# EAGLE library part RADIOMETRIX-HX1 (library OpenSpace)
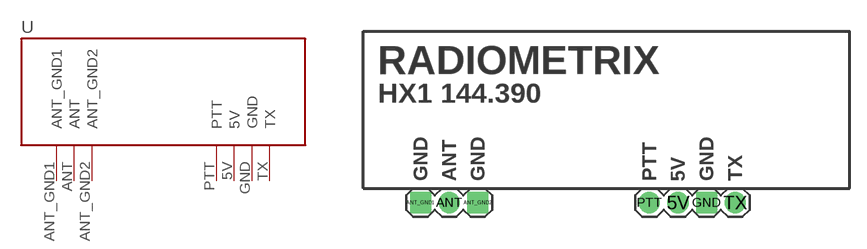
[diagram p4: symbol with the pads of RADIOMETRIX-HX1; footprint RADIOMETRIX-HX1]

Designator prefix -

## RADIOMETRIX-HX1  [RADIOMETRIX-HX1]
5V  5V
ANT  ANT
ANT_GND1  ANT_GND1
ANT_GND2  ANT_GND2
GND  GND
PTT  PTT
TX  TX

## Footprint RADIOMETRIX-HX1 (pad centres in mm)
drill 1.016 pad 1.88: 5V 6.35,-7.62; ANT -13.97,-7.62; PTT 3.81,-7.62; TX 11.43,-7.62
drill 1.016 pad 1.88 square: ANT_GND1 -16.51,-7.62; ANT_GND2 -11.43,-7.62; GND 8.89,-7.62